# Altium footprint library con-leotronics.PCBLIB: 93 footprints (part 6 of 8)
Each footprint in its own frame and in the unit in brackets; x right, y up, seen from the top. Pads: shape width x height; smd on the part's side, far side on the other; paste and mask are expansions set on the pad; w line width, h text height; cw(c..) or ccw(c..) is an arc to the next point about the centre after c.
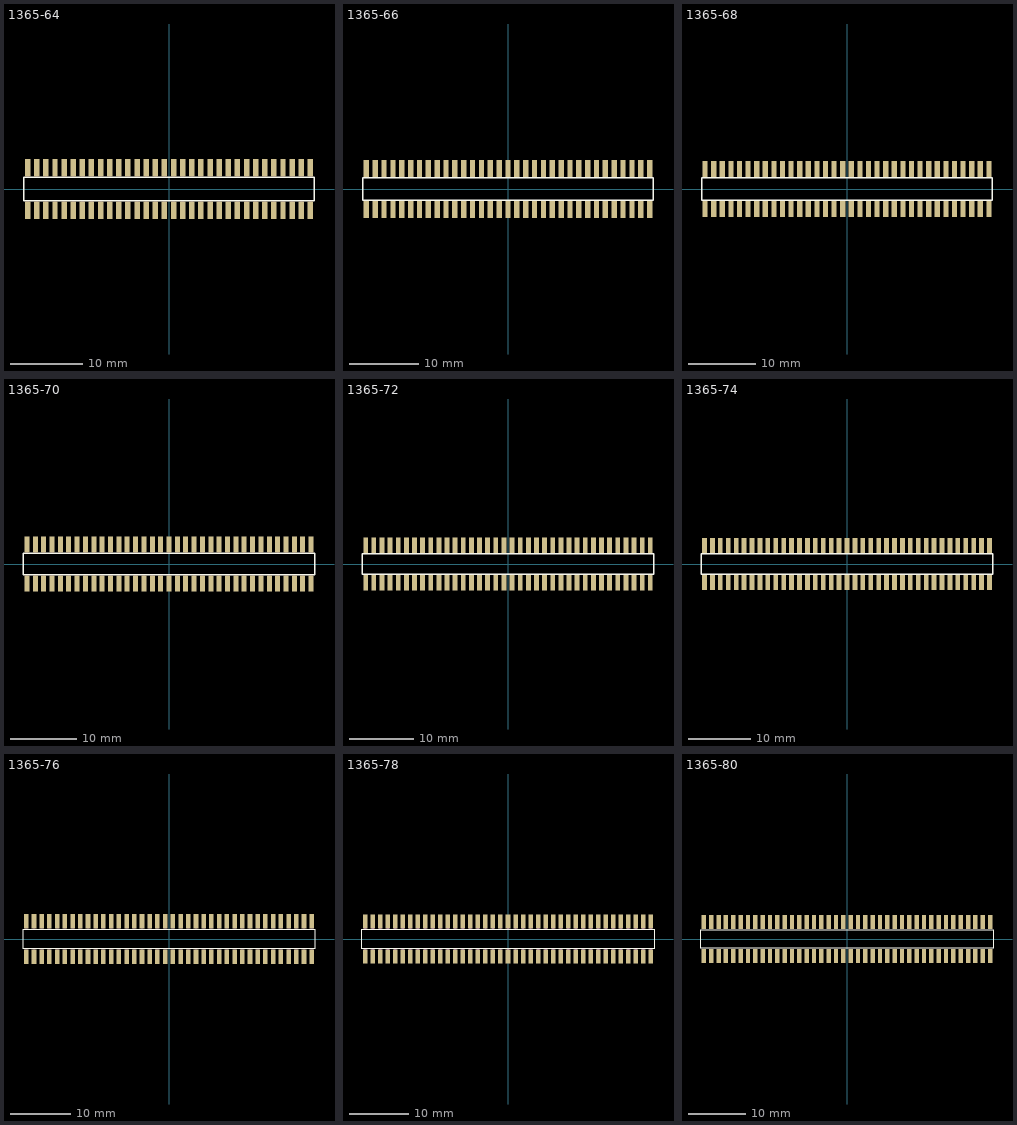
[diagram p5: the footprints below, top view; thin cyan lines are the x and y axes]

## 1365-64 [mm]
pads (64):
  rect 0.76x2.4 smd: 1(-19.685,-2.95) 2(-19.685,2.95) 3(-18.415,-2.95) 4(-18.415,2.95) 5(-17.145,-2.95) 6(-17.145,2.95) 7(-15.875,-2.95) 8(-15.875,2.95) 9(-14.605,-2.95) 10(-14.605,2.95) 11(-13.335,-2.95) 12(-13.335,2.95) 13(-12.065,-2.95) 14(-12.065,2.95) 15(-10.795,-2.95) 16(-10.795,2.95) 17(-9.525,-2.95) 18(-9.525,2.95) 19(-8.255,-2.95) 20(-8.255,2.95) 21(-6.985,-2.95) 22(-6.985,2.95) 23(-5.715,-2.95) 24(-5.715,2.95) 25(-4.445,-2.95) 26(-4.445,2.95) 27(-3.175,-2.95) 28(-3.175,2.95) 29(-1.905,-2.95) 30(-1.905,2.95) 31(-0.635,-2.95) 32(-0.635,2.95) 33(0.635,-2.95) 34(0.635,2.95) 35(1.905,-2.95) 36(1.905,2.95) 37(3.175,-2.95) 38(3.175,2.95) 39(4.445,-2.95) 40(4.445,2.95) 41(5.715,-2.95) 42(5.715,2.95) 43(6.985,-2.95) 44(6.985,2.95) 45(8.255,-2.95) 46(8.255,2.95) 47(9.525,-2.95) 48(9.525,2.95) 49(10.795,-2.95) 50(10.795,2.95) 51(12.065,-2.95) 52(12.065,2.95) 53(13.335,-2.95) 54(13.335,2.95) 55(14.605,-2.95) 56(14.605,2.95) 57(15.875,-2.95) 58(15.875,2.95) 59(17.145,-2.95) 60(17.145,2.95) 61(18.415,-2.95) 62(18.415,2.95) 63(19.685,-2.95) 64(19.685,2.95)
Top Overlay:
  lines w0.203: -20.22,-1.63 20.215,-1.63 20.215,1.63 -20.22,1.63 -20.22,-1.63
Mechanical 16:
  rectangle: -19.885,1.725 -19.485,2.75
  region: -19.485,-1.725 -19.885,-1.725 -19.885,-2.75 -19.485,-2.75
  rectangle: -18.615,1.725 -18.215,2.75
  region: -18.215,-1.725 -18.615,-1.725 -18.615,-2.75 -18.215,-2.75
  rectangle: -17.345,1.725 -16.945,2.75
  region: -16.945,-1.725 -17.345,-1.725 -17.345,-2.75 -16.945,-2.75
  rectangle: -16.075,1.725 -15.675,2.75
  region: -15.675,-1.725 -16.075,-1.725 -16.075,-2.75 -15.675,-2.75
  rectangle: -14.805,1.725 -14.405,2.75
  region: -14.405,-1.725 -14.805,-1.725 -14.805,-2.75 -14.405,-2.75
  rectangle: -13.535,1.725 -13.135,2.75
  region: -13.135,-1.725 -13.535,-1.725 -13.535,-2.75 -13.135,-2.75
  rectangle: -12.265,1.725 -11.865,2.75
  region: -11.865,-1.725 -12.265,-1.725 -12.265,-2.75 -11.865,-2.75
  rectangle: -10.995,1.725 -10.595,2.75
  region: -10.595,-1.725 -10.995,-1.725 -10.995,-2.75 -10.595,-2.75
  rectangle: -9.725,1.725 -9.325,2.75
  region: -9.325,-1.725 -9.725,-1.725 -9.725,-2.75 -9.325,-2.75
  rectangle: -8.455,1.725 -8.055,2.75
  region: -8.055,-1.725 -8.455,-1.725 -8.455,-2.75 -8.055,-2.75
  rectangle: -7.185,1.725 -6.785,2.75
  region: -6.785,-1.725 -7.185,-1.725 -7.185,-2.75 -6.785,-2.75
  rectangle: -5.915,1.725 -5.515,2.75
  region: -5.515,-1.725 -5.915,-1.725 -5.915,-2.75 -5.515,-2.75
  rectangle: -4.645,1.725 -4.245,2.75
  region: -4.245,-1.725 -4.645,-1.725 -4.645,-2.75 -4.245,-2.75
  rectangle: -3.375,1.725 -2.975,2.75
  region: -2.975,-1.725 -3.375,-1.725 -3.375,-2.75 -2.975,-2.75
  rectangle: -2.105,1.725 -1.705,2.75
  region: -1.705,-1.725 -2.105,-1.725 -2.105,-2.75 -1.705,-2.75
  rectangle: -0.835,1.725 -0.435,2.75
  region: -0.435,-1.725 -0.835,-1.725 -0.835,-2.75 -0.435,-2.75
  rectangle: 0.435,1.725 0.835,2.75
  region: 0.835,-1.725 0.435,-1.725 0.435,-2.75 0.835,-2.75
  rectangle: 1.705,1.725 2.105,2.75
  region: 2.105,-1.725 1.705,-1.725 1.705,-2.75 2.105,-2.75
  rectangle: 2.975,1.725 3.375,2.75
  region: 3.375,-1.725 2.975,-1.725 2.975,-2.75 3.375,-2.75
  rectangle: 4.245,1.725 4.645,2.75
  region: 4.645,-1.725 4.245,-1.725 4.245,-2.75 4.645,-2.75
  rectangle: 5.515,1.725 5.915,2.75
  region: 5.915,-1.725 5.515,-1.725 5.515,-2.75 5.915,-2.75
  rectangle: 6.785,1.725 7.185,2.75
  region: 7.185,-1.725 6.785,-1.725 6.785,-2.75 7.185,-2.75
  rectangle: 8.055,1.725 8.455,2.75
  region: 8.455,-1.725 8.055,-1.725 8.055,-2.75 8.455,-2.75
  rectangle: 9.325,1.725 9.725,2.75
  region: 9.725,-1.725 9.325,-1.725 9.325,-2.75 9.725,-2.75
  rectangle: 10.595,1.725 10.995,2.75
  region: 10.995,-1.725 10.595,-1.725 10.595,-2.75 10.995,-2.75
  rectangle: 11.865,1.725 12.265,2.75
  region: 12.265,-1.725 11.865,-1.725 11.865,-2.75 12.265,-2.75
  rectangle: 13.135,1.725 13.535,2.75
  region: 13.535,-1.725 13.135,-1.725 13.135,-2.75 13.535,-2.75
  rectangle: 14.405,1.725 14.805,2.75
  region: 14.805,-1.725 14.405,-1.725 14.405,-2.75 14.805,-2.75
  rectangle: 15.675,1.725 16.075,2.75
  region: 16.075,-1.725 15.675,-1.725 15.675,-2.75 16.075,-2.75
  rectangle: 16.945,1.725 17.345,2.75
  region: 17.345,-1.725 16.945,-1.725 16.945,-2.75 17.345,-2.75
  rectangle: 18.215,1.725 18.615,2.75
  region: 18.615,-1.725 18.215,-1.725 18.215,-2.75 18.615,-2.75
  rectangle: 19.485,1.725 19.885,2.75
  region: 19.885,-1.725 19.485,-1.725 19.485,-2.75 19.885,-2.75

## 1365-66 [mm]
pads (66):
  rect 0.76x2.4 smd: 1(-20.32,-2.95) 2(-20.32,2.95) 3(-19.05,-2.95) 4(-19.05,2.95) 5(-17.78,-2.95) 6(-17.78,2.95) 7(-16.51,-2.95) 8(-16.51,2.95) 9(-15.24,-2.95) 10(-15.24,2.95) 11(-13.97,-2.95) 12(-13.97,2.95) 13(-12.7,-2.95) 14(-12.7,2.95) 15(-11.43,-2.95) 16(-11.43,2.95) 17(-10.16,-2.95) 18(-10.16,2.95) 19(-8.89,-2.95) 20(-8.89,2.95) 21(-7.62,-2.95) 22(-7.62,2.95) 23(-6.35,-2.95) 24(-6.35,2.95) 25(-5.08,-2.95) 26(-5.08,2.95) 27(-3.81,-2.95) 28(-3.81,2.95) 29(-2.54,-2.95) 30(-2.54,2.95) 31(-1.27,-2.95) 32(-1.27,2.95) 33(0,-2.95) 34(0,2.95) 35(1.27,-2.95) 36(1.27,2.95) 37(2.54,-2.95) 38(2.54,2.95) 39(3.81,-2.95) 40(3.81,2.95) 41(5.08,-2.95) 42(5.08,2.95) 43(6.35,-2.95) 44(6.35,2.95) 45(7.62,-2.95) 46(7.62,2.95) 47(8.89,-2.95) 48(8.89,2.95) 49(10.16,-2.95) 50(10.16,2.95) 51(11.43,-2.95) 52(11.43,2.95) 53(12.7,-2.95) 54(12.7,2.95) 55(13.97,-2.95) 56(13.97,2.95) 57(15.24,-2.95) 58(15.24,2.95) 59(16.51,-2.95) 60(16.51,2.95) 61(17.78,-2.95) 62(17.78,2.95) 63(19.05,-2.95) 64(19.05,2.95) 65(20.32,-2.95) 66(20.32,2.95)
Top Overlay:
  lines w0.203: -20.855,-1.63 20.85,-1.63 20.85,1.63 -20.855,1.63 -20.855,-1.63
Mechanical 16:
  rectangle: -20.52,1.725 -20.12,2.75
  region: -20.12,-1.725 -20.52,-1.725 -20.52,-2.75 -20.12,-2.75
  rectangle: -19.25,1.725 -18.85,2.75
  region: -18.85,-1.725 -19.25,-1.725 -19.25,-2.75 -18.85,-2.75
  rectangle: -17.98,1.725 -17.58,2.75
  region: -17.58,-1.725 -17.98,-1.725 -17.98,-2.75 -17.58,-2.75
  rectangle: -16.71,1.725 -16.31,2.75
  region: -16.31,-1.725 -16.71,-1.725 -16.71,-2.75 -16.31,-2.75
  rectangle: -15.44,1.725 -15.04,2.75
  region: -15.04,-1.725 -15.44,-1.725 -15.44,-2.75 -15.04,-2.75
  rectangle: -14.17,1.725 -13.77,2.75
  region: -13.77,-1.725 -14.17,-1.725 -14.17,-2.75 -13.77,-2.75
  rectangle: -12.9,1.725 -12.5,2.75
  region: -12.5,-1.725 -12.9,-1.725 -12.9,-2.75 -12.5,-2.75
  rectangle: -11.63,1.725 -11.23,2.75
  region: -11.23,-1.725 -11.63,-1.725 -11.63,-2.75 -11.23,-2.75
  rectangle: -10.36,1.725 -9.96,2.75
  region: -9.96,-1.725 -10.36,-1.725 -10.36,-2.75 -9.96,-2.75
  rectangle: -9.09,1.725 -8.69,2.75
  region: -8.69,-1.725 -9.09,-1.725 -9.09,-2.75 -8.69,-2.75
  rectangle: -7.82,1.725 -7.42,2.75
  region: -7.42,-1.725 -7.82,-1.725 -7.82,-2.75 -7.42,-2.75
  rectangle: -6.55,1.725 -6.15,2.75
  region: -6.15,-1.725 -6.55,-1.725 -6.55,-2.75 -6.15,-2.75
  rectangle: -5.28,1.725 -4.88,2.75
  region: -4.88,-1.725 -5.28,-1.725 -5.28,-2.75 -4.88,-2.75
  rectangle: -4.01,1.725 -3.61,2.75
  region: -3.61,-1.725 -4.01,-1.725 -4.01,-2.75 -3.61,-2.75
  rectangle: -2.74,1.725 -2.34,2.75
  region: -2.34,-1.725 -2.74,-1.725 -2.74,-2.75 -2.34,-2.75
  rectangle: -1.47,1.725 -1.07,2.75
  region: -1.07,-1.725 -1.47,-1.725 -1.47,-2.75 -1.07,-2.75
  rectangle: -0.2,1.725 0.2,2.75
  region: 0.2,-1.725 -0.2,-1.725 -0.2,-2.75 0.2,-2.75
  rectangle: 1.07,1.725 1.47,2.75
  region: 1.47,-1.725 1.07,-1.725 1.07,-2.75 1.47,-2.75
  rectangle: 2.34,1.725 2.74,2.75
  region: 2.74,-1.725 2.34,-1.725 2.34,-2.75 2.74,-2.75
  rectangle: 3.61,1.725 4.01,2.75
  region: 4.01,-1.725 3.61,-1.725 3.61,-2.75 4.01,-2.75
  rectangle: 4.88,1.725 5.28,2.75
  region: 5.28,-1.725 4.88,-1.725 4.88,-2.75 5.28,-2.75
  rectangle: 6.15,1.725 6.55,2.75
  region: 6.55,-1.725 6.15,-1.725 6.15,-2.75 6.55,-2.75
  rectangle: 7.42,1.725 7.82,2.75
  region: 7.82,-1.725 7.42,-1.725 7.42,-2.75 7.82,-2.75
  rectangle: 8.69,1.725 9.09,2.75
  region: 9.09,-1.725 8.69,-1.725 8.69,-2.75 9.09,-2.75
  rectangle: 9.96,1.725 10.36,2.75
  region: 10.36,-1.725 9.96,-1.725 9.96,-2.75 10.36,-2.75
  rectangle: 11.23,1.725 11.63,2.75
  region: 11.63,-1.725 11.23,-1.725 11.23,-2.75 11.63,-2.75
  rectangle: 12.5,1.725 12.9,2.75
  region: 12.9,-1.725 12.5,-1.725 12.5,-2.75 12.9,-2.75
  rectangle: 13.77,1.725 14.17,2.75
  region: 14.17,-1.725 13.77,-1.725 13.77,-2.75 14.17,-2.75
  rectangle: 15.04,1.725 15.44,2.75
  region: 15.44,-1.725 15.04,-1.725 15.04,-2.75 15.44,-2.75
  rectangle: 16.31,1.725 16.71,2.75
  region: 16.71,-1.725 16.31,-1.725 16.31,-2.75 16.71,-2.75
  rectangle: 17.58,1.725 17.98,2.75
  region: 17.98,-1.725 17.58,-1.725 17.58,-2.75 17.98,-2.75
  rectangle: 18.85,1.725 19.25,2.75
  region: 19.25,-1.725 18.85,-1.725 18.85,-2.75 19.25,-2.75
  rectangle: 20.12,1.725 20.52,2.75
  region: 20.52,-1.725 20.12,-1.725 20.12,-2.75 20.52,-2.75

## 1365-68 [mm]
pads (68):
  rect 0.76x2.4 smd: 1(-20.955,-2.95) 2(-20.955,2.95) 3(-19.685,-2.95) 4(-19.685,2.95) 5(-18.415,-2.95) 6(-18.415,2.95) 7(-17.145,-2.95) 8(-17.145,2.95) 9(-15.875,-2.95) 10(-15.875,2.95) 11(-14.605,-2.95) 12(-14.605,2.95) 13(-13.335,-2.95) 14(-13.335,2.95) 15(-12.065,-2.95) 16(-12.065,2.95) 17(-10.795,-2.95) 18(-10.795,2.95) 19(-9.525,-2.95) 20(-9.525,2.95) 21(-8.255,-2.95) 22(-8.255,2.95) 23(-6.985,-2.95) 24(-6.985,2.95) 25(-5.715,-2.95) 26(-5.715,2.95) 27(-4.445,-2.95) 28(-4.445,2.95) 29(-3.175,-2.95) 30(-3.175,2.95) 31(-1.905,-2.95) 32(-1.905,2.95) 33(-0.635,-2.95) 34(-0.635,2.95) 35(0.635,-2.95) 36(0.635,2.95) 37(1.905,-2.95) 38(1.905,2.95) 39(3.175,-2.95) 40(3.175,2.95) 41(4.445,-2.95) 42(4.445,2.95) 43(5.715,-2.95) 44(5.715,2.95) 45(6.985,-2.95) 46(6.985,2.95) 47(8.255,-2.95) 48(8.255,2.95) 49(9.525,-2.95) 50(9.525,2.95) 51(10.795,-2.95) 52(10.795,2.95) 53(12.065,-2.95) 54(12.065,2.95) 55(13.335,-2.95) 56(13.335,2.95) 57(14.605,-2.95) 58(14.605,2.95) 59(15.875,-2.95) 60(15.875,2.95) 61(17.145,-2.95) 62(17.145,2.95) 63(18.415,-2.95) 64(18.415,2.95) 65(19.685,-2.95) 66(19.685,2.95) 67(20.955,-2.95) 68(20.955,2.95)
Top Overlay:
  lines w0.203: -21.49,-1.63 21.485,-1.63 21.485,1.63 -21.49,1.63 -21.49,-1.63
Mechanical 16:
  rectangle: -21.155,1.725 -20.755,2.75
  region: -20.755,-1.725 -21.155,-1.725 -21.155,-2.75 -20.755,-2.75
  rectangle: -19.885,1.725 -19.485,2.75
  region: -19.485,-1.725 -19.885,-1.725 -19.885,-2.75 -19.485,-2.75
  rectangle: -18.615,1.725 -18.215,2.75
  region: -18.215,-1.725 -18.615,-1.725 -18.615,-2.75 -18.215,-2.75
  rectangle: -17.345,1.725 -16.945,2.75
  region: -16.945,-1.725 -17.345,-1.725 -17.345,-2.75 -16.945,-2.75
  rectangle: -16.075,1.725 -15.675,2.75
  region: -15.675,-1.725 -16.075,-1.725 -16.075,-2.75 -15.675,-2.75
  rectangle: -14.805,1.725 -14.405,2.75
  region: -14.405,-1.725 -14.805,-1.725 -14.805,-2.75 -14.405,-2.75
  rectangle: -13.535,1.725 -13.135,2.75
  region: -13.135,-1.725 -13.535,-1.725 -13.535,-2.75 -13.135,-2.75
  rectangle: -12.265,1.725 -11.865,2.75
  region: -11.865,-1.725 -12.265,-1.725 -12.265,-2.75 -11.865,-2.75
  rectangle: -10.995,1.725 -10.595,2.75
  region: -10.595,-1.725 -10.995,-1.725 -10.995,-2.75 -10.595,-2.75
  rectangle: -9.725,1.725 -9.325,2.75
  region: -9.325,-1.725 -9.725,-1.725 -9.725,-2.75 -9.325,-2.75
  rectangle: -8.455,1.725 -8.055,2.75
  region: -8.055,-1.725 -8.455,-1.725 -8.455,-2.75 -8.055,-2.75
  rectangle: -7.185,1.725 -6.785,2.75
  region: -6.785,-1.725 -7.185,-1.725 -7.185,-2.75 -6.785,-2.75
  rectangle: -5.915,1.725 -5.515,2.75
  region: -5.515,-1.725 -5.915,-1.725 -5.915,-2.75 -5.515,-2.75
  rectangle: -4.645,1.725 -4.245,2.75
  region: -4.245,-1.725 -4.645,-1.725 -4.645,-2.75 -4.245,-2.75
  rectangle: -3.375,1.725 -2.975,2.75
  region: -2.975,-1.725 -3.375,-1.725 -3.375,-2.75 -2.975,-2.75
  rectangle: -2.105,1.725 -1.705,2.75
  region: -1.705,-1.725 -2.105,-1.725 -2.105,-2.75 -1.705,-2.75
  rectangle: -0.835,1.725 -0.435,2.75
  region: -0.435,-1.725 -0.835,-1.725 -0.835,-2.75 -0.435,-2.75
  rectangle: 0.435,1.725 0.835,2.75
  region: 0.835,-1.725 0.435,-1.725 0.435,-2.75 0.835,-2.75
  rectangle: 1.705,1.725 2.105,2.75
  region: 2.105,-1.725 1.705,-1.725 1.705,-2.75 2.105,-2.75
  rectangle: 2.975,1.725 3.375,2.75
  region: 3.375,-1.725 2.975,-1.725 2.975,-2.75 3.375,-2.75
  rectangle: 4.245,1.725 4.645,2.75
  region: 4.645,-1.725 4.245,-1.725 4.245,-2.75 4.645,-2.75
  rectangle: 5.515,1.725 5.915,2.75
  region: 5.915,-1.725 5.515,-1.725 5.515,-2.75 5.915,-2.75
  rectangle: 6.785,1.725 7.185,2.75
  region: 7.185,-1.725 6.785,-1.725 6.785,-2.75 7.185,-2.75
  rectangle: 8.055,1.725 8.455,2.75
  region: 8.455,-1.725 8.055,-1.725 8.055,-2.75 8.455,-2.75
  rectangle: 9.325,1.725 9.725,2.75
  region: 9.725,-1.725 9.325,-1.725 9.325,-2.75 9.725,-2.75
  rectangle: 10.595,1.725 10.995,2.75
  region: 10.995,-1.725 10.595,-1.725 10.595,-2.75 10.995,-2.75
  rectangle: 11.865,1.725 12.265,2.75
  region: 12.265,-1.725 11.865,-1.725 11.865,-2.75 12.265,-2.75
  rectangle: 13.135,1.725 13.535,2.75
  region: 13.535,-1.725 13.135,-1.725 13.135,-2.75 13.535,-2.75
  rectangle: 14.405,1.725 14.805,2.75
  region: 14.805,-1.725 14.405,-1.725 14.405,-2.75 14.805,-2.75
  rectangle: 15.675,1.725 16.075,2.75
  region: 16.075,-1.725 15.675,-1.725 15.675,-2.75 16.075,-2.75
  rectangle: 16.945,1.725 17.345,2.75
  region: 17.345,-1.725 16.945,-1.725 16.945,-2.75 17.345,-2.75
  rectangle: 18.215,1.725 18.615,2.75
  region: 18.615,-1.725 18.215,-1.725 18.215,-2.75 18.615,-2.75
  rectangle: 19.485,1.725 19.885,2.75
  region: 19.885,-1.725 19.485,-1.725 19.485,-2.75 19.885,-2.75
  rectangle: 20.755,1.725 21.155,2.75
  region: 21.155,-1.725 20.755,-1.725 20.755,-2.75 21.155,-2.75

## 1365-70 [mm]
pads (70):
  rect 0.76x2.4 smd: 1(-21.59,-2.95) 2(-21.59,2.95) 3(-20.32,-2.95) 4(-20.32,2.95) 5(-19.05,-2.95) 6(-19.05,2.95) 7(-17.78,-2.95) 8(-17.78,2.95) 9(-16.51,-2.95) 10(-16.51,2.95) 11(-15.24,-2.95) 12(-15.24,2.95) 13(-13.97,-2.95) 14(-13.97,2.95) 15(-12.7,-2.95) 16(-12.7,2.95) 17(-11.43,-2.95) 18(-11.43,2.95) 19(-10.16,-2.95) 20(-10.16,2.95) 21(-8.89,-2.95) 22(-8.89,2.95) 23(-7.62,-2.95) 24(-7.62,2.95) 25(-6.35,-2.95) 26(-6.35,2.95) 27(-5.08,-2.95) 28(-5.08,2.95) 29(-3.81,-2.95) 30(-3.81,2.95) 31(-2.54,-2.95) 32(-2.54,2.95) 33(-1.27,-2.95) 34(-1.27,2.95) 35(0,-2.95) 36(0,2.95) 37(1.27,-2.95) 38(1.27,2.95) 39(2.54,-2.95) 40(2.54,2.95) 41(3.81,-2.95) 42(3.81,2.95) 43(5.08,-2.95) 44(5.08,2.95) 45(6.35,-2.95) 46(6.35,2.95) 47(7.62,-2.95) 48(7.62,2.95) 49(8.89,-2.95) 50(8.89,2.95) 51(10.16,-2.95) 52(10.16,2.95) 53(11.43,-2.95) 54(11.43,2.95) 55(12.7,-2.95) 56(12.7,2.95) 57(13.97,-2.95) 58(13.97,2.95) 59(15.24,-2.95) 60(15.24,2.95) 61(16.51,-2.95) 62(16.51,2.95) 63(17.78,-2.95) 64(17.78,2.95) 65(19.05,-2.95) 66(19.05,2.95) 67(20.32,-2.95) 68(20.32,2.95) 69(21.59,-2.95) 70(21.59,2.95)
Top Overlay:
  lines w0.203: -22.125,-1.63 22.12,-1.63 22.12,1.63 -22.125,1.63 -22.125,-1.63
Mechanical 16:
  rectangle: -21.79,1.725 -21.39,2.75
  region: -21.39,-1.725 -21.79,-1.725 -21.79,-2.75 -21.39,-2.75
  rectangle: -20.52,1.725 -20.12,2.75
  region: -20.12,-1.725 -20.52,-1.725 -20.52,-2.75 -20.12,-2.75
  rectangle: -19.25,1.725 -18.85,2.75
  region: -18.85,-1.725 -19.25,-1.725 -19.25,-2.75 -18.85,-2.75
  rectangle: -17.98,1.725 -17.58,2.75
  region: -17.58,-1.725 -17.98,-1.725 -17.98,-2.75 -17.58,-2.75
  rectangle: -16.71,1.725 -16.31,2.75
  region: -16.31,-1.725 -16.71,-1.725 -16.71,-2.75 -16.31,-2.75
  rectangle: -15.44,1.725 -15.04,2.75
  region: -15.04,-1.725 -15.44,-1.725 -15.44,-2.75 -15.04,-2.75
  rectangle: -14.17,1.725 -13.77,2.75
  region: -13.77,-1.725 -14.17,-1.725 -14.17,-2.75 -13.77,-2.75
  rectangle: -12.9,1.725 -12.5,2.75
  region: -12.5,-1.725 -12.9,-1.725 -12.9,-2.75 -12.5,-2.75
  rectangle: -11.63,1.725 -11.23,2.75
  region: -11.23,-1.725 -11.63,-1.725 -11.63,-2.75 -11.23,-2.75
  rectangle: -10.36,1.725 -9.96,2.75
  region: -9.96,-1.725 -10.36,-1.725 -10.36,-2.75 -9.96,-2.75
  rectangle: -9.09,1.725 -8.69,2.75
  region: -8.69,-1.725 -9.09,-1.725 -9.09,-2.75 -8.69,-2.75
  rectangle: -7.82,1.725 -7.42,2.75
  region: -7.42,-1.725 -7.82,-1.725 -7.82,-2.75 -7.42,-2.75
  rectangle: -6.55,1.725 -6.15,2.75
  region: -6.15,-1.725 -6.55,-1.725 -6.55,-2.75 -6.15,-2.75
  rectangle: -5.28,1.725 -4.88,2.75
  region: -4.88,-1.725 -5.28,-1.725 -5.28,-2.75 -4.88,-2.75
  rectangle: -4.01,1.725 -3.61,2.75
  region: -3.61,-1.725 -4.01,-1.725 -4.01,-2.75 -3.61,-2.75
  rectangle: -2.74,1.725 -2.34,2.75
  region: -2.34,-1.725 -2.74,-1.725 -2.74,-2.75 -2.34,-2.75
  rectangle: -1.47,1.725 -1.07,2.75
  region: -1.07,-1.725 -1.47,-1.725 -1.47,-2.75 -1.07,-2.75
  rectangle: -0.2,1.725 0.2,2.75
  region: 0.2,-1.725 -0.2,-1.725 -0.2,-2.75 0.2,-2.75
  rectangle: 1.07,1.725 1.47,2.75
  region: 1.47,-1.725 1.07,-1.725 1.07,-2.75 1.47,-2.75
  rectangle: 2.34,1.725 2.74,2.75
  region: 2.74,-1.725 2.34,-1.725 2.34,-2.75 2.74,-2.75
  rectangle: 3.61,1.725 4.01,2.75
  region: 4.01,-1.725 3.61,-1.725 3.61,-2.75 4.01,-2.75
  rectangle: 4.88,1.725 5.28,2.75
  region: 5.28,-1.725 4.88,-1.725 4.88,-2.75 5.28,-2.75
  rectangle: 6.15,1.725 6.55,2.75
  region: 6.55,-1.725 6.15,-1.725 6.15,-2.75 6.55,-2.75
  rectangle: 7.42,1.725 7.82,2.75
  region: 7.82,-1.725 7.42,-1.725 7.42,-2.75 7.82,-2.75
  rectangle: 8.69,1.725 9.09,2.75
  region: 9.09,-1.725 8.69,-1.725 8.69,-2.75 9.09,-2.75
  rectangle: 9.96,1.725 10.36,2.75
  region: 10.36,-1.725 9.96,-1.725 9.96,-2.75 10.36,-2.75
  rectangle: 11.23,1.725 11.63,2.75
  region: 11.63,-1.725 11.23,-1.725 11.23,-2.75 11.63,-2.75
  rectangle: 12.5,1.725 12.9,2.75
  region: 12.9,-1.725 12.5,-1.725 12.5,-2.75 12.9,-2.75
  rectangle: 13.77,1.725 14.17,2.75
  region: 14.17,-1.725 13.77,-1.725 13.77,-2.75 14.17,-2.75
  rectangle: 15.04,1.725 15.44,2.75
  region: 15.44,-1.725 15.04,-1.725 15.04,-2.75 15.44,-2.75
  rectangle: 16.31,1.725 16.71,2.75
  region: 16.71,-1.725 16.31,-1.725 16.31,-2.75 16.71,-2.75
  rectangle: 17.58,1.725 17.98,2.75
  region: 17.98,-1.725 17.58,-1.725 17.58,-2.75 17.98,-2.75
  rectangle: 18.85,1.725 19.25,2.75
  region: 19.25,-1.725 18.85,-1.725 18.85,-2.75 19.25,-2.75
  rectangle: 20.12,1.725 20.52,2.75
  region: 20.52,-1.725 20.12,-1.725 20.12,-2.75 20.52,-2.75
  rectangle: 21.39,1.725 21.79,2.75
  region: 21.79,-1.725 21.39,-1.725 21.39,-2.75 21.79,-2.75

## 1365-72 [mm]
pads (72):
  rect 0.76x2.4 smd: 1(-22.225,-2.95) 2(-22.225,2.95) 3(-20.955,-2.95) 4(-20.955,2.95) 5(-19.685,-2.95) 6(-19.685,2.95) 7(-18.415,-2.95) 8(-18.415,2.95) 9(-17.145,-2.95) 10(-17.145,2.95) 11(-15.875,-2.95) 12(-15.875,2.95) 13(-14.605,-2.95) 14(-14.605,2.95) 15(-13.335,-2.95) 16(-13.335,2.95) 17(-12.065,-2.95) 18(-12.065,2.95) 19(-10.795,-2.95) 20(-10.795,2.95) 21(-9.525,-2.95) 22(-9.525,2.95) 23(-8.255,-2.95) 24(-8.255,2.95) 25(-6.985,-2.95) 26(-6.985,2.95) 27(-5.715,-2.95) 28(-5.715,2.95) 29(-4.445,-2.95) 30(-4.445,2.95) 31(-3.175,-2.95) 32(-3.175,2.95) 33(-1.905,-2.95) 34(-1.905,2.95) 35(-0.635,-2.95) 36(-0.635,2.95) 37(0.635,-2.95) 38(0.635,2.95) 39(1.905,-2.95) 40(1.905,2.95) 41(3.175,-2.95) 42(3.175,2.95) 43(4.445,-2.95) 44(4.445,2.95) 45(5.715,-2.95) 46(5.715,2.95) 47(6.985,-2.95) 48(6.985,2.95) 49(8.255,-2.95) 50(8.255,2.95) 51(9.525,-2.95) 52(9.525,2.95) 53(10.795,-2.95) 54(10.795,2.95) 55(12.065,-2.95) 56(12.065,2.95) 57(13.335,-2.95) 58(13.335,2.95) 59(14.605,-2.95) 60(14.605,2.95) 61(15.875,-2.95) 62(15.875,2.95) 63(17.145,-2.95) 64(17.145,2.95) 65(18.415,-2.95) 66(18.415,2.95) 67(19.685,-2.95) 68(19.685,2.95) 69(20.955,-2.95) 70(20.955,2.95) 71(22.225,-2.95) 72(22.225,2.95)
Top Overlay:
  lines w0.203: -22.76,-1.63 22.755,-1.63 22.755,1.63 -22.76,1.63 -22.76,-1.63
Mechanical 16:
  rectangle: -22.425,1.725 -22.025,2.75
  region: -22.025,-1.725 -22.425,-1.725 -22.425,-2.75 -22.025,-2.75
  rectangle: -21.155,1.725 -20.755,2.75
  region: -20.755,-1.725 -21.155,-1.725 -21.155,-2.75 -20.755,-2.75
  rectangle: -19.885,1.725 -19.485,2.75
  region: -19.485,-1.725 -19.885,-1.725 -19.885,-2.75 -19.485,-2.75
  rectangle: -18.615,1.725 -18.215,2.75
  region: -18.215,-1.725 -18.615,-1.725 -18.615,-2.75 -18.215,-2.75
  rectangle: -17.345,1.725 -16.945,2.75
  region: -16.945,-1.725 -17.345,-1.725 -17.345,-2.75 -16.945,-2.75
  rectangle: -16.075,1.725 -15.675,2.75
  region: -15.675,-1.725 -16.075,-1.725 -16.075,-2.75 -15.675,-2.75
  rectangle: -14.805,1.725 -14.405,2.75
  region: -14.405,-1.725 -14.805,-1.725 -14.805,-2.75 -14.405,-2.75
  rectangle: -13.535,1.725 -13.135,2.75
  region: -13.135,-1.725 -13.535,-1.725 -13.535,-2.75 -13.135,-2.75
  rectangle: -12.265,1.725 -11.865,2.75
  region: -11.865,-1.725 -12.265,-1.725 -12.265,-2.75 -11.865,-2.75
  rectangle: -10.995,1.725 -10.595,2.75
  region: -10.595,-1.725 -10.995,-1.725 -10.995,-2.75 -10.595,-2.75
  rectangle: -9.725,1.725 -9.325,2.75
  region: -9.325,-1.725 -9.725,-1.725 -9.725,-2.75 -9.325,-2.75
  rectangle: -8.455,1.725 -8.055,2.75
  region: -8.055,-1.725 -8.455,-1.725 -8.455,-2.75 -8.055,-2.75
  rectangle: -7.185,1.725 -6.785,2.75
  region: -6.785,-1.725 -7.185,-1.725 -7.185,-2.75 -6.785,-2.75
  rectangle: -5.915,1.725 -5.515,2.75
  region: -5.515,-1.725 -5.915,-1.725 -5.915,-2.75 -5.515,-2.75
  rectangle: -4.645,1.725 -4.245,2.75
  region: -4.245,-1.725 -4.645,-1.725 -4.645,-2.75 -4.245,-2.75
  rectangle: -3.375,1.725 -2.975,2.75
  region: -2.975,-1.725 -3.375,-1.725 -3.375,-2.75 -2.975,-2.75
  rectangle: -2.105,1.725 -1.705,2.75
  region: -1.705,-1.725 -2.105,-1.725 -2.105,-2.75 -1.705,-2.75
  rectangle: -0.835,1.725 -0.435,2.75
  region: -0.435,-1.725 -0.835,-1.725 -0.835,-2.75 -0.435,-2.75
  rectangle: 0.435,1.725 0.835,2.75
  region: 0.835,-1.725 0.435,-1.725 0.435,-2.75 0.835,-2.75
  rectangle: 1.705,1.725 2.105,2.75
  region: 2.105,-1.725 1.705,-1.725 1.705,-2.75 2.105,-2.75
  rectangle: 2.975,1.725 3.375,2.75
  region: 3.375,-1.725 2.975,-1.725 2.975,-2.75 3.375,-2.75
  rectangle: 4.245,1.725 4.645,2.75
  region: 4.645,-1.725 4.245,-1.725 4.245,-2.75 4.645,-2.75
  rectangle: 5.515,1.725 5.915,2.75
  region: 5.915,-1.725 5.515,-1.725 5.515,-2.75 5.915,-2.75
  rectangle: 6.785,1.725 7.185,2.75
  region: 7.185,-1.725 6.785,-1.725 6.785,-2.75 7.185,-2.75
  rectangle: 8.055,1.725 8.455,2.75
  region: 8.455,-1.725 8.055,-1.725 8.055,-2.75 8.455,-2.75
  rectangle: 9.325,1.725 9.725,2.75
  region: 9.725,-1.725 9.325,-1.725 9.325,-2.75 9.725,-2.75
  rectangle: 10.595,1.725 10.995,2.75
  region: 10.995,-1.725 10.595,-1.725 10.595,-2.75 10.995,-2.75
  rectangle: 11.865,1.725 12.265,2.75
  region: 12.265,-1.725 11.865,-1.725 11.865,-2.75 12.265,-2.75
  rectangle: 13.135,1.725 13.535,2.75
  region: 13.535,-1.725 13.135,-1.725 13.135,-2.75 13.535,-2.75
  rectangle: 14.405,1.725 14.805,2.75
  region: 14.805,-1.725 14.405,-1.725 14.405,-2.75 14.805,-2.75
  rectangle: 15.675,1.725 16.075,2.75
  region: 16.075,-1.725 15.675,-1.725 15.675,-2.75 16.075,-2.75
  rectangle: 16.945,1.725 17.345,2.75
  region: 17.345,-1.725 16.945,-1.725 16.945,-2.75 17.345,-2.75
  rectangle: 18.215,1.725 18.615,2.75
  region: 18.615,-1.725 18.215,-1.725 18.215,-2.75 18.615,-2.75
  rectangle: 19.485,1.725 19.885,2.75
  region: 19.885,-1.725 19.485,-1.725 19.485,-2.75 19.885,-2.75
  rectangle: 20.755,1.725 21.155,2.75
  region: 21.155,-1.725 20.755,-1.725 20.755,-2.75 21.155,-2.75
  rectangle: 22.025,1.725 22.425,2.75
  region: 22.425,-1.725 22.025,-1.725 22.025,-2.75 22.425,-2.75

## 1365-74 [mm]
pads (74):
  rect 0.76x2.4 smd: 1(-22.86,-2.95) 2(-22.86,2.95) 3(-21.59,-2.95) 4(-21.59,2.95) 5(-20.32,-2.95) 6(-20.32,2.95) 7(-19.05,-2.95) 8(-19.05,2.95) 9(-17.78,-2.95) 10(-17.78,2.95) 11(-16.51,-2.95) 12(-16.51,2.95) 13(-15.24,-2.95) 14(-15.24,2.95) 15(-13.97,-2.95) 16(-13.97,2.95) 17(-12.7,-2.95) 18(-12.7,2.95) 19(-11.43,-2.95) 20(-11.43,2.95) 21(-10.16,-2.95) 22(-10.16,2.95) 23(-8.89,-2.95) 24(-8.89,2.95) 25(-7.62,-2.95) 26(-7.62,2.95) 27(-6.35,-2.95) 28(-6.35,2.95) 29(-5.08,-2.95) 30(-5.08,2.95) 31(-3.81,-2.95) 32(-3.81,2.95) 33(-2.54,-2.95) 34(-2.54,2.95) 35(-1.27,-2.95) 36(-1.27,2.95) 37(0,-2.95) 38(0,2.95) 39(1.27,-2.95) 40(1.27,2.95) 41(2.54,-2.95) 42(2.54,2.95) 43(3.81,-2.95) 44(3.81,2.95) 45(5.08,-2.95) 46(5.08,2.95) 47(6.35,-2.95) 48(6.35,2.95) 49(7.62,-2.95) 50(7.62,2.95) 51(8.89,-2.95) 52(8.89,2.95) 53(10.16,-2.95) 54(10.16,2.95) 55(11.43,-2.95) 56(11.43,2.95) 57(12.7,-2.95) 58(12.7,2.95) 59(13.97,-2.95) 60(13.97,2.95) 61(15.24,-2.95) 62(15.24,2.95) 63(16.51,-2.95) 64(16.51,2.95) 65(17.78,-2.95) 66(17.78,2.95) 67(19.05,-2.95) 68(19.05,2.95) 69(20.32,-2.95) 70(20.32,2.95) 71(21.59,-2.95) 72(21.59,2.95) 73(22.86,-2.95) 74(22.86,2.95)
Top Overlay:
  lines w0.203: -23.395,-1.63 23.39,-1.63 23.39,1.63 -23.395,1.63 -23.395,-1.63
Mechanical 16:
  rectangle: -23.06,1.725 -22.66,2.75
  region: -22.66,-1.725 -23.06,-1.725 -23.06,-2.75 -22.66,-2.75
  rectangle: -21.79,1.725 -21.39,2.75
  region: -21.39,-1.725 -21.79,-1.725 -21.79,-2.75 -21.39,-2.75
  rectangle: -20.52,1.725 -20.12,2.75
  region: -20.12,-1.725 -20.52,-1.725 -20.52,-2.75 -20.12,-2.75
  rectangle: -19.25,1.725 -18.85,2.75
  region: -18.85,-1.725 -19.25,-1.725 -19.25,-2.75 -18.85,-2.75
  rectangle: -17.98,1.725 -17.58,2.75
  region: -17.58,-1.725 -17.98,-1.725 -17.98,-2.75 -17.58,-2.75
  rectangle: -16.71,1.725 -16.31,2.75
  region: -16.31,-1.725 -16.71,-1.725 -16.71,-2.75 -16.31,-2.75
  rectangle: -15.44,1.725 -15.04,2.75
  region: -15.04,-1.725 -15.44,-1.725 -15.44,-2.75 -15.04,-2.75
  rectangle: -14.17,1.725 -13.77,2.75
  region: -13.77,-1.725 -14.17,-1.725 -14.17,-2.75 -13.77,-2.75
  rectangle: -12.9,1.725 -12.5,2.75
  region: -12.5,-1.725 -12.9,-1.725 -12.9,-2.75 -12.5,-2.75
  rectangle: -11.63,1.725 -11.23,2.75
  region: -11.23,-1.725 -11.63,-1.725 -11.63,-2.75 -11.23,-2.75
  rectangle: -10.36,1.725 -9.96,2.75
  region: -9.96,-1.725 -10.36,-1.725 -10.36,-2.75 -9.96,-2.75
  rectangle: -9.09,1.725 -8.69,2.75
  region: -8.69,-1.725 -9.09,-1.725 -9.09,-2.75 -8.69,-2.75
  rectangle: -7.82,1.725 -7.42,2.75
  region: -7.42,-1.725 -7.82,-1.725 -7.82,-2.75 -7.42,-2.75
  rectangle: -6.55,1.725 -6.15,2.75
  region: -6.15,-1.725 -6.55,-1.725 -6.55,-2.75 -6.15,-2.75
  rectangle: -5.28,1.725 -4.88,2.75
  region: -4.88,-1.725 -5.28,-1.725 -5.28,-2.75 -4.88,-2.75
  rectangle: -4.01,1.725 -3.61,2.75
  region: -3.61,-1.725 -4.01,-1.725 -4.01,-2.75 -3.61,-2.75
  rectangle: -2.74,1.725 -2.34,2.75
  region: -2.34,-1.725 -2.74,-1.725 -2.74,-2.75 -2.34,-2.75
  rectangle: -1.47,1.725 -1.07,2.75
  region: -1.07,-1.725 -1.47,-1.725 -1.47,-2.75 -1.07,-2.75
  rectangle: -0.2,1.725 0.2,2.75
  region: 0.2,-1.725 -0.2,-1.725 -0.2,-2.75 0.2,-2.75
  rectangle: 1.07,1.725 1.47,2.75
  region: 1.47,-1.725 1.07,-1.725 1.07,-2.75 1.47,-2.75
  rectangle: 2.34,1.725 2.74,2.75
  region: 2.74,-1.725 2.34,-1.725 2.34,-2.75 2.74,-2.75
  rectangle: 3.61,1.725 4.01,2.75
  region: 4.01,-1.725 3.61,-1.725 3.61,-2.75 4.01,-2.75
  rectangle: 4.88,1.725 5.28,2.75
  region: 5.28,-1.725 4.88,-1.725 4.88,-2.75 5.28,-2.75
  rectangle: 6.15,1.725 6.55,2.75
  region: 6.55,-1.725 6.15,-1.725 6.15,-2.75 6.55,-2.75
  rectangle: 7.42,1.725 7.82,2.75
  region: 7.82,-1.725 7.42,-1.725 7.42,-2.75 7.82,-2.75
  rectangle: 8.69,1.725 9.09,2.75
  region: 9.09,-1.725 8.69,-1.725 8.69,-2.75 9.09,-2.75
  rectangle: 9.96,1.725 10.36,2.75
  region: 10.36,-1.725 9.96,-1.725 9.96,-2.75 10.36,-2.75
  rectangle: 11.23,1.725 11.63,2.75
  region: 11.63,-1.725 11.23,-1.725 11.23,-2.75 11.63,-2.75
  rectangle: 12.5,1.725 12.9,2.75
  region: 12.9,-1.725 12.5,-1.725 12.5,-2.75 12.9,-2.75
  rectangle: 13.77,1.725 14.17,2.75
  region: 14.17,-1.725 13.77,-1.725 13.77,-2.75 14.17,-2.75
  rectangle: 15.04,1.725 15.44,2.75
  region: 15.44,-1.725 15.04,-1.725 15.04,-2.75 15.44,-2.75
  rectangle: 16.31,1.725 16.71,2.75
  region: 16.71,-1.725 16.31,-1.725 16.31,-2.75 16.71,-2.75
  rectangle: 17.58,1.725 17.98,2.75
  region: 17.98,-1.725 17.58,-1.725 17.58,-2.75 17.98,-2.75
  rectangle: 18.85,1.725 19.25,2.75
  region: 19.25,-1.725 18.85,-1.725 18.85,-2.75 19.25,-2.75
  rectangle: 20.12,1.725 20.52,2.75
  region: 20.52,-1.725 20.12,-1.725 20.12,-2.75 20.52,-2.75
  rectangle: 21.39,1.725 21.79,2.75
  region: 21.79,-1.725 21.39,-1.725 21.39,-2.75 21.79,-2.75
  rectangle: 22.66,1.725 23.06,2.75
  region: 23.06,-1.725 22.66,-1.725 22.66,-2.75 23.06,-2.75

## 1365-76 [mm]
pads (76):
  rect 0.76x2.4 smd: 1(-23.495,-2.95) 2(-23.495,2.95) 3(-22.225,-2.95) 4(-22.225,2.95) 5(-20.955,-2.95) 6(-20.955,2.95) 7(-19.685,-2.95) 8(-19.685,2.95) 9(-18.415,-2.95) 10(-18.415,2.95) 11(-17.145,-2.95) 12(-17.145,2.95) 13(-15.875,-2.95) 14(-15.875,2.95) 15(-14.605,-2.95) 16(-14.605,2.95) 17(-13.335,-2.95) 18(-13.335,2.95) 19(-12.065,-2.95) 20(-12.065,2.95) 21(-10.795,-2.95) 22(-10.795,2.95) 23(-9.525,-2.95) 24(-9.525,2.95) 25(-8.255,-2.95) 26(-8.255,2.95) 27(-6.985,-2.95) 28(-6.985,2.95) 29(-5.715,-2.95) 30(-5.715,2.95) 31(-4.445,-2.95) 32(-4.445,2.95) 33(-3.175,-2.95) 34(-3.175,2.95) 35(-1.905,-2.95) 36(-1.905,2.95) 37(-0.635,-2.95) 38(-0.635,2.95) 39(0.635,-2.95) 40(0.635,2.95) 41(1.905,-2.95) 42(1.905,2.95) 43(3.175,-2.95) 44(3.175,2.95) 45(4.445,-2.95) 46(4.445,2.95) 47(5.715,-2.95) 48(5.715,2.95) 49(6.985,-2.95) 50(6.985,2.95) 51(8.255,-2.95) 52(8.255,2.95) 53(9.525,-2.95) 54(9.525,2.95) 55(10.795,-2.95) 56(10.795,2.95) 57(12.065,-2.95) 58(12.065,2.95) 59(13.335,-2.95) 60(13.335,2.95) 61(14.605,-2.95) 62(14.605,2.95) 63(15.875,-2.95) 64(15.875,2.95) 65(17.145,-2.95) 66(17.145,2.95) 67(18.415,-2.95) 68(18.415,2.95) 69(19.685,-2.95) 70(19.685,2.95) 71(20.955,-2.95) 72(20.955,2.95) 73(22.225,-2.95) 74(22.225,2.95) 75(23.495,-2.95) 76(23.495,2.95)
Top Overlay:
  lines w0.203: -24.03,-1.63 24.025,-1.63 24.025,1.63 -24.03,1.63 -24.03,-1.63
Mechanical 16:
  rectangle: -23.695,1.725 -23.295,2.75
  region: -23.295,-1.725 -23.695,-1.725 -23.695,-2.75 -23.295,-2.75
  rectangle: -22.425,1.725 -22.025,2.75
  region: -22.025,-1.725 -22.425,-1.725 -22.425,-2.75 -22.025,-2.75
  rectangle: -21.155,1.725 -20.755,2.75
  region: -20.755,-1.725 -21.155,-1.725 -21.155,-2.75 -20.755,-2.75
  rectangle: -19.885,1.725 -19.485,2.75
  region: -19.485,-1.725 -19.885,-1.725 -19.885,-2.75 -19.485,-2.75
  rectangle: -18.615,1.725 -18.215,2.75
  region: -18.215,-1.725 -18.615,-1.725 -18.615,-2.75 -18.215,-2.75
  rectangle: -17.345,1.725 -16.945,2.75
  region: -16.945,-1.725 -17.345,-1.725 -17.345,-2.75 -16.945,-2.75
  rectangle: -16.075,1.725 -15.675,2.75
  region: -15.675,-1.725 -16.075,-1.725 -16.075,-2.75 -15.675,-2.75
  rectangle: -14.805,1.725 -14.405,2.75
  region: -14.405,-1.725 -14.805,-1.725 -14.805,-2.75 -14.405,-2.75
  rectangle: -13.535,1.725 -13.135,2.75
  region: -13.135,-1.725 -13.535,-1.725 -13.535,-2.75 -13.135,-2.75
  rectangle: -12.265,1.725 -11.865,2.75
  region: -11.865,-1.725 -12.265,-1.725 -12.265,-2.75 -11.865,-2.75
  rectangle: -10.995,1.725 -10.595,2.75
  region: -10.595,-1.725 -10.995,-1.725 -10.995,-2.75 -10.595,-2.75
  rectangle: -9.725,1.725 -9.325,2.75
  region: -9.325,-1.725 -9.725,-1.725 -9.725,-2.75 -9.325,-2.75
  rectangle: -8.455,1.725 -8.055,2.75
  region: -8.055,-1.725 -8.455,-1.725 -8.455,-2.75 -8.055,-2.75
  rectangle: -7.185,1.725 -6.785,2.75
  region: -6.785,-1.725 -7.185,-1.725 -7.185,-2.75 -6.785,-2.75
  rectangle: -5.915,1.725 -5.515,2.75
  region: -5.515,-1.725 -5.915,-1.725 -5.915,-2.75 -5.515,-2.75
  rectangle: -4.645,1.725 -4.245,2.75
  region: -4.245,-1.725 -4.645,-1.725 -4.645,-2.75 -4.245,-2.75
  rectangle: -3.375,1.725 -2.975,2.75
  region: -2.975,-1.725 -3.375,-1.725 -3.375,-2.75 -2.975,-2.75
  rectangle: -2.105,1.725 -1.705,2.75
  region: -1.705,-1.725 -2.105,-1.725 -2.105,-2.75 -1.705,-2.75
  rectangle: -0.835,1.725 -0.435,2.75
  region: -0.435,-1.725 -0.835,-1.725 -0.835,-2.75 -0.435,-2.75
  rectangle: 0.435,1.725 0.835,2.75
  region: 0.835,-1.725 0.435,-1.725 0.435,-2.75 0.835,-2.75
  rectangle: 1.705,1.725 2.105,2.75
  region: 2.105,-1.725 1.705,-1.725 1.705,-2.75 2.105,-2.75
  rectangle: 2.975,1.725 3.375,2.75
  region: 3.375,-1.725 2.975,-1.725 2.975,-2.75 3.375,-2.75
  rectangle: 4.245,1.725 4.645,2.75
  region: 4.645,-1.725 4.245,-1.725 4.245,-2.75 4.645,-2.75
  rectangle: 5.515,1.725 5.915,2.75
  region: 5.915,-1.725 5.515,-1.725 5.515,-2.75 5.915,-2.75
  rectangle: 6.785,1.725 7.185,2.75
  region: 7.185,-1.725 6.785,-1.725 6.785,-2.75 7.185,-2.75
  rectangle: 8.055,1.725 8.455,2.75
  region: 8.455,-1.725 8.055,-1.725 8.055,-2.75 8.455,-2.75
  rectangle: 9.325,1.725 9.725,2.75
  region: 9.725,-1.725 9.325,-1.725 9.325,-2.75 9.725,-2.75
  rectangle: 10.595,1.725 10.995,2.75
  region: 10.995,-1.725 10.595,-1.725 10.595,-2.75 10.995,-2.75
  rectangle: 11.865,1.725 12.265,2.75
  region: 12.265,-1.725 11.865,-1.725 11.865,-2.75 12.265,-2.75
  rectangle: 13.135,1.725 13.535,2.75
  region: 13.535,-1.725 13.135,-1.725 13.135,-2.75 13.535,-2.75
  rectangle: 14.405,1.725 14.805,2.75
  region: 14.805,-1.725 14.405,-1.725 14.405,-2.75 14.805,-2.75
  rectangle: 15.675,1.725 16.075,2.75
  region: 16.075,-1.725 15.675,-1.725 15.675,-2.75 16.075,-2.75
  rectangle: 16.945,1.725 17.345,2.75
  region: 17.345,-1.725 16.945,-1.725 16.945,-2.75 17.345,-2.75
  rectangle: 18.215,1.725 18.615,2.75
  region: 18.615,-1.725 18.215,-1.725 18.215,-2.75 18.615,-2.75
  rectangle: 19.485,1.725 19.885,2.75
  region: 19.885,-1.725 19.485,-1.725 19.485,-2.75 19.885,-2.75
  rectangle: 20.755,1.725 21.155,2.75
  region: 21.155,-1.725 20.755,-1.725 20.755,-2.75 21.155,-2.75
  rectangle: 22.025,1.725 22.425,2.75
  region: 22.425,-1.725 22.025,-1.725 22.025,-2.75 22.425,-2.75
  rectangle: 23.295,1.725 23.695,2.75
  region: 23.695,-1.725 23.295,-1.725 23.295,-2.75 23.695,-2.75

## 1365-78 [mm]
pads (78):
  rect 0.76x2.4 smd: 1(-24.13,-2.95) 2(-24.13,2.95) 3(-22.86,-2.95) 4(-22.86,2.95) 5(-21.59,-2.95) 6(-21.59,2.95) 7(-20.32,-2.95) 8(-20.32,2.95) 9(-19.05,-2.95) 10(-19.05,2.95) 11(-17.78,-2.95) 12(-17.78,2.95) 13(-16.51,-2.95) 14(-16.51,2.95) 15(-15.24,-2.95) 16(-15.24,2.95) 17(-13.97,-2.95) 18(-13.97,2.95) 19(-12.7,-2.95) 20(-12.7,2.95) 21(-11.43,-2.95) 22(-11.43,2.95) 23(-10.16,-2.95) 24(-10.16,2.95) 25(-8.89,-2.95) 26(-8.89,2.95) 27(-7.62,-2.95) 28(-7.62,2.95) 29(-6.35,-2.95) 30(-6.35,2.95) 31(-5.08,-2.95) 32(-5.08,2.95) 33(-3.81,-2.95) 34(-3.81,2.95) 35(-2.54,-2.95) 36(-2.54,2.95) 37(-1.27,-2.95) 38(-1.27,2.95) 39(0,-2.95) 40(0,2.95) 41(1.27,-2.95) 42(1.27,2.95) 43(2.54,-2.95) 44(2.54,2.95) 45(3.81,-2.95) 46(3.81,2.95) 47(5.08,-2.95) 48(5.08,2.95) 49(6.35,-2.95) 50(6.35,2.95) 51(7.62,-2.95) 52(7.62,2.95) 53(8.89,-2.95) 54(8.89,2.95) 55(10.16,-2.95) 56(10.16,2.95) 57(11.43,-2.95) 58(11.43,2.95) 59(12.7,-2.95) 60(12.7,2.95) 61(13.97,-2.95) 62(13.97,2.95) 63(15.24,-2.95) 64(15.24,2.95) 65(16.51,-2.95) 66(16.51,2.95) 67(17.78,-2.95) 68(17.78,2.95) 69(19.05,-2.95) 70(19.05,2.95) 71(20.32,-2.95) 72(20.32,2.95) 73(21.59,-2.95) 74(21.59,2.95) 75(22.86,-2.95) 76(22.86,2.95) 77(24.13,-2.95) 78(24.13,2.95)
Top Overlay:
  lines w0.203: -24.665,-1.63 24.66,-1.63 24.66,1.63 -24.665,1.63 -24.665,-1.63
Mechanical 16:
  rectangle: -24.33,1.725 -23.93,2.75
  region: -23.93,-1.725 -24.33,-1.725 -24.33,-2.75 -23.93,-2.75
  rectangle: -23.06,1.725 -22.66,2.75
  region: -22.66,-1.725 -23.06,-1.725 -23.06,-2.75 -22.66,-2.75
  rectangle: -21.79,1.725 -21.39,2.75
  region: -21.39,-1.725 -21.79,-1.725 -21.79,-2.75 -21.39,-2.75
  rectangle: -20.52,1.725 -20.12,2.75
  region: -20.12,-1.725 -20.52,-1.725 -20.52,-2.75 -20.12,-2.75
  rectangle: -19.25,1.725 -18.85,2.75
  region: -18.85,-1.725 -19.25,-1.725 -19.25,-2.75 -18.85,-2.75
  rectangle: -17.98,1.725 -17.58,2.75
  region: -17.58,-1.725 -17.98,-1.725 -17.98,-2.75 -17.58,-2.75
  rectangle: -16.71,1.725 -16.31,2.75
  region: -16.31,-1.725 -16.71,-1.725 -16.71,-2.75 -16.31,-2.75
  rectangle: -15.44,1.725 -15.04,2.75
  region: -15.04,-1.725 -15.44,-1.725 -15.44,-2.75 -15.04,-2.75
  rectangle: -14.17,1.725 -13.77,2.75
  region: -13.77,-1.725 -14.17,-1.725 -14.17,-2.75 -13.77,-2.75
  rectangle: -12.9,1.725 -12.5,2.75
  region: -12.5,-1.725 -12.9,-1.725 -12.9,-2.75 -12.5,-2.75
  rectangle: -11.63,1.725 -11.23,2.75
  region: -11.23,-1.725 -11.63,-1.725 -11.63,-2.75 -11.23,-2.75
  rectangle: -10.36,1.725 -9.96,2.75
  region: -9.96,-1.725 -10.36,-1.725 -10.36,-2.75 -9.96,-2.75
  rectangle: -9.09,1.725 -8.69,2.75
  region: -8.69,-1.725 -9.09,-1.725 -9.09,-2.75 -8.69,-2.75
  rectangle: -7.82,1.725 -7.42,2.75
  region: -7.42,-1.725 -7.82,-1.725 -7.82,-2.75 -7.42,-2.75
  rectangle: -6.55,1.725 -6.15,2.75
  region: -6.15,-1.725 -6.55,-1.725 -6.55,-2.75 -6.15,-2.75
  rectangle: -5.28,1.725 -4.88,2.75
  region: -4.88,-1.725 -5.28,-1.725 -5.28,-2.75 -4.88,-2.75
  rectangle: -4.01,1.725 -3.61,2.75
  region: -3.61,-1.725 -4.01,-1.725 -4.01,-2.75 -3.61,-2.75
  rectangle: -2.74,1.725 -2.34,2.75
  region: -2.34,-1.725 -2.74,-1.725 -2.74,-2.75 -2.34,-2.75
  rectangle: -1.47,1.725 -1.07,2.75
  region: -1.07,-1.725 -1.47,-1.725 -1.47,-2.75 -1.07,-2.75
  rectangle: -0.2,1.725 0.2,2.75
  region: 0.2,-1.725 -0.2,-1.725 -0.2,-2.75 0.2,-2.75
  rectangle: 1.07,1.725 1.47,2.75
  region: 1.47,-1.725 1.07,-1.725 1.07,-2.75 1.47,-2.75
  rectangle: 2.34,1.725 2.74,2.75
  region: 2.74,-1.725 2.34,-1.725 2.34,-2.75 2.74,-2.75
  rectangle: 3.61,1.725 4.01,2.75
  region: 4.01,-1.725 3.61,-1.725 3.61,-2.75 4.01,-2.75
  rectangle: 4.88,1.725 5.28,2.75
  region: 5.28,-1.725 4.88,-1.725 4.88,-2.75 5.28,-2.75
  rectangle: 6.15,1.725 6.55,2.75
  region: 6.55,-1.725 6.15,-1.725 6.15,-2.75 6.55,-2.75
  rectangle: 7.42,1.725 7.82,2.75
  region: 7.82,-1.725 7.42,-1.725 7.42,-2.75 7.82,-2.75
  rectangle: 8.69,1.725 9.09,2.75
  region: 9.09,-1.725 8.69,-1.725 8.69,-2.75 9.09,-2.75
  rectangle: 9.96,1.725 10.36,2.75
  region: 10.36,-1.725 9.96,-1.725 9.96,-2.75 10.36,-2.75
  rectangle: 11.23,1.725 11.63,2.75
  region: 11.63,-1.725 11.23,-1.725 11.23,-2.75 11.63,-2.75
  rectangle: 12.5,1.725 12.9,2.75
  region: 12.9,-1.725 12.5,-1.725 12.5,-2.75 12.9,-2.75
  rectangle: 13.77,1.725 14.17,2.75
  region: 14.17,-1.725 13.77,-1.725 13.77,-2.75 14.17,-2.75
  rectangle: 15.04,1.725 15.44,2.75
  region: 15.44,-1.725 15.04,-1.725 15.04,-2.75 15.44,-2.75
  rectangle: 16.31,1.725 16.71,2.75
  region: 16.71,-1.725 16.31,-1.725 16.31,-2.75 16.71,-2.75
  rectangle: 17.58,1.725 17.98,2.75
  region: 17.98,-1.725 17.58,-1.725 17.58,-2.75 17.98,-2.75
  rectangle: 18.85,1.725 19.25,2.75
  region: 19.25,-1.725 18.85,-1.725 18.85,-2.75 19.25,-2.75
  rectangle: 20.12,1.725 20.52,2.75
  region: 20.52,-1.725 20.12,-1.725 20.12,-2.75 20.52,-2.75
  rectangle: 21.39,1.725 21.79,2.75
  region: 21.79,-1.725 21.39,-1.725 21.39,-2.75 21.79,-2.75
  rectangle: 22.66,1.725 23.06,2.75
  region: 23.06,-1.725 22.66,-1.725 22.66,-2.75 23.06,-2.75
  rectangle: 23.93,1.725 24.33,2.75
  region: 24.33,-1.725 23.93,-1.725 23.93,-2.75 24.33,-2.75

## 1365-80 [mm]
pads (80):
  rect 0.76x2.4 smd: 1(-24.765,-2.95) 2(-24.765,2.95) 3(-23.495,-2.95) 4(-23.495,2.95) 5(-22.225,-2.95) 6(-22.225,2.95) 7(-20.955,-2.95) 8(-20.955,2.95) 9(-19.685,-2.95) 10(-19.685,2.95) 11(-18.415,-2.95) 12(-18.415,2.95) 13(-17.145,-2.95) 14(-17.145,2.95) 15(-15.875,-2.95) 16(-15.875,2.95) 17(-14.605,-2.95) 18(-14.605,2.95) 19(-13.335,-2.95) 20(-13.335,2.95) 21(-12.065,-2.95) 22(-12.065,2.95) 23(-10.795,-2.95) 24(-10.795,2.95) 25(-9.525,-2.95) 26(-9.525,2.95) 27(-8.255,-2.95) 28(-8.255,2.95) 29(-6.985,-2.95) 30(-6.985,2.95) 31(-5.715,-2.95) 32(-5.715,2.95) 33(-4.445,-2.95) 34(-4.445,2.95) 35(-3.175,-2.95) 36(-3.175,2.95) 37(-1.905,-2.95) 38(-1.905,2.95) 39(-0.635,-2.95) 40(-0.635,2.95) 41(0.635,-2.95) 42(0.635,2.95) 43(1.905,-2.95) 44(1.905,2.95) 45(3.175,-2.95) 46(3.175,2.95) 47(4.445,-2.95) 48(4.445,2.95) 49(5.715,-2.95) 50(5.715,2.95) 51(6.985,-2.95) 52(6.985,2.95) 53(8.255,-2.95) 54(8.255,2.95) 55(9.525,-2.95) 56(9.525,2.95) 57(10.795,-2.95) 58(10.795,2.95) 59(12.065,-2.95) 60(12.065,2.95) 61(13.335,-2.95) 62(13.335,2.95) 63(14.605,-2.95) 64(14.605,2.95) 65(15.875,-2.95) 66(15.875,2.95) 67(17.145,-2.95) 68(17.145,2.95) 69(18.415,-2.95) 70(18.415,2.95) 71(19.685,-2.95) 72(19.685,2.95) 73(20.955,-2.95) 74(20.955,2.95) 75(22.225,-2.95) 76(22.225,2.95) 77(23.495,-2.95) 78(23.495,2.95) 79(24.765,-2.95) 80(24.765,2.95)
Top Overlay:
  lines w0.203: -25.3,-1.63 25.295,-1.63 25.295,1.63 -25.3,1.63 -25.3,-1.63
Mechanical 16:
  rectangle: -24.965,1.725 -24.565,2.75
  region: -24.565,-1.725 -24.965,-1.725 -24.965,-2.75 -24.565,-2.75
  rectangle: -23.695,1.725 -23.295,2.75
  region: -23.295,-1.725 -23.695,-1.725 -23.695,-2.75 -23.295,-2.75
  rectangle: -22.425,1.725 -22.025,2.75
  region: -22.025,-1.725 -22.425,-1.725 -22.425,-2.75 -22.025,-2.75
  rectangle: -21.155,1.725 -20.755,2.75
  region: -20.755,-1.725 -21.155,-1.725 -21.155,-2.75 -20.755,-2.75
  rectangle: -19.885,1.725 -19.485,2.75
  region: -19.485,-1.725 -19.885,-1.725 -19.885,-2.75 -19.485,-2.75
  rectangle: -18.615,1.725 -18.215,2.75
  region: -18.215,-1.725 -18.615,-1.725 -18.615,-2.75 -18.215,-2.75
  rectangle: -17.345,1.725 -16.945,2.75
  region: -16.945,-1.725 -17.345,-1.725 -17.345,-2.75 -16.945,-2.75
  rectangle: -16.075,1.725 -15.675,2.75
  region: -15.675,-1.725 -16.075,-1.725 -16.075,-2.75 -15.675,-2.75
  rectangle: -14.805,1.725 -14.405,2.75
  region: -14.405,-1.725 -14.805,-1.725 -14.805,-2.75 -14.405,-2.75
  rectangle: -13.535,1.725 -13.135,2.75
  region: -13.135,-1.725 -13.535,-1.725 -13.535,-2.75 -13.135,-2.75
  rectangle: -12.265,1.725 -11.865,2.75
  region: -11.865,-1.725 -12.265,-1.725 -12.265,-2.75 -11.865,-2.75
  rectangle: -10.995,1.725 -10.595,2.75
  region: -10.595,-1.725 -10.995,-1.725 -10.995,-2.75 -10.595,-2.75
  rectangle: -9.725,1.725 -9.325,2.75
  region: -9.325,-1.725 -9.725,-1.725 -9.725,-2.75 -9.325,-2.75
  rectangle: -8.455,1.725 -8.055,2.75
  region: -8.055,-1.725 -8.455,-1.725 -8.455,-2.75 -8.055,-2.75
  rectangle: -7.185,1.725 -6.785,2.75
  region: -6.785,-1.725 -7.185,-1.725 -7.185,-2.75 -6.785,-2.75
  rectangle: -5.915,1.725 -5.515,2.75
  region: -5.515,-1.725 -5.915,-1.725 -5.915,-2.75 -5.515,-2.75
  rectangle: -4.645,1.725 -4.245,2.75
  region: -4.245,-1.725 -4.645,-1.725 -4.645,-2.75 -4.245,-2.75
  rectangle: -3.375,1.725 -2.975,2.75
  region: -2.975,-1.725 -3.375,-1.725 -3.375,-2.75 -2.975,-2.75
  rectangle: -2.105,1.725 -1.705,2.75
  region: -1.705,-1.725 -2.105,-1.725 -2.105,-2.75 -1.705,-2.75
  rectangle: -0.835,1.725 -0.435,2.75
  region: -0.435,-1.725 -0.835,-1.725 -0.835,-2.75 -0.435,-2.75
  rectangle: 0.435,1.725 0.835,2.75
  region: 0.835,-1.725 0.435,-1.725 0.435,-2.75 0.835,-2.75
  rectangle: 1.705,1.725 2.105,2.75
  region: 2.105,-1.725 1.705,-1.725 1.705,-2.75 2.105,-2.75
  rectangle: 2.975,1.725 3.375,2.75
  region: 3.375,-1.725 2.975,-1.725 2.975,-2.75 3.375,-2.75
  rectangle: 4.245,1.725 4.645,2.75
  region: 4.645,-1.725 4.245,-1.725 4.245,-2.75 4.645,-2.75
  rectangle: 5.515,1.725 5.915,2.75
  region: 5.915,-1.725 5.515,-1.725 5.515,-2.75 5.915,-2.75
  rectangle: 6.785,1.725 7.185,2.75
  region: 7.185,-1.725 6.785,-1.725 6.785,-2.75 7.185,-2.75
  rectangle: 8.055,1.725 8.455,2.75
  region: 8.455,-1.725 8.055,-1.725 8.055,-2.75 8.455,-2.75
  rectangle: 9.325,1.725 9.725,2.75
  region: 9.725,-1.725 9.325,-1.725 9.325,-2.75 9.725,-2.75
  rectangle: 10.595,1.725 10.995,2.75
  region: 10.995,-1.725 10.595,-1.725 10.595,-2.75 10.995,-2.75
  rectangle: 11.865,1.725 12.265,2.75
  region: 12.265,-1.725 11.865,-1.725 11.865,-2.75 12.265,-2.75
  rectangle: 13.135,1.725 13.535,2.75
  region: 13.535,-1.725 13.135,-1.725 13.135,-2.75 13.535,-2.75
  rectangle: 14.405,1.725 14.805,2.75
  region: 14.805,-1.725 14.405,-1.725 14.405,-2.75 14.805,-2.75
  rectangle: 15.675,1.725 16.075,2.75
  region: 16.075,-1.725 15.675,-1.725 15.675,-2.75 16.075,-2.75
  rectangle: 16.945,1.725 17.345,2.75
  region: 17.345,-1.725 16.945,-1.725 16.945,-2.75 17.345,-2.75
  rectangle: 18.215,1.725 18.615,2.75
  region: 18.615,-1.725 18.215,-1.725 18.215,-2.75 18.615,-2.75
  rectangle: 19.485,1.725 19.885,2.75
  region: 19.885,-1.725 19.485,-1.725 19.485,-2.75 19.885,-2.75
  rectangle: 20.755,1.725 21.155,2.75
  region: 21.155,-1.725 20.755,-1.725 20.755,-2.75 21.155,-2.75
  rectangle: 22.025,1.725 22.425,2.75
  region: 22.425,-1.725 22.025,-1.725 22.025,-2.75 22.425,-2.75
  rectangle: 23.295,1.725 23.695,2.75
  region: 23.695,-1.725 23.295,-1.725 23.295,-2.75 23.695,-2.75
  rectangle: 24.565,1.725 24.965,2.75
  region: 24.965,-1.725 24.565,-1.725 24.565,-2.75 24.965,-2.75